# EAGLE library part EE02_02 (library EE)
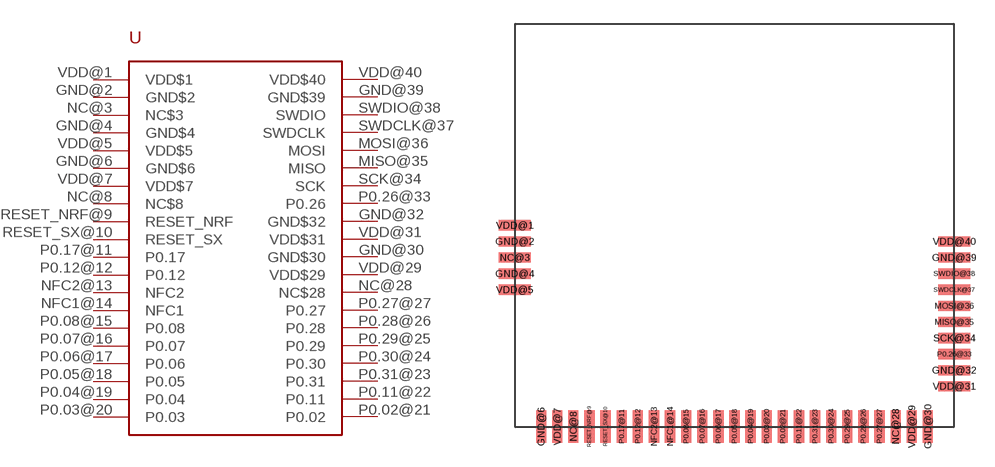
[diagram p4: symbol with the pads of EE02_02; footprint EE02_02]

Designator prefix -

## EE02_02  [EE02_02]
GND@2  GND$2
GND@4  GND$4
GND@6  GND$6
GND@30  GND$30
GND@32  GND$32
GND@39  GND$39
MISO@35  MISO
MOSI@36  MOSI
NC@3  NC$3
NC@8  NC$8
NC@28  NC$28
NFC1@14  NFC1
NFC2@13  NFC2
P0.02@21  P0.02
P0.03@20  P0.03
P0.04@19  P0.04
P0.05@18  P0.05
P0.06@17  P0.06
P0.07@16  P0.07
P0.08@15  P0.08
P0.11@22  P0.11
P0.12@12  P0.12
P0.17@11  P0.17
P0.26@33  P0.26
P0.27@27  P0.27
P0.28@26  P0.28
P0.29@25  P0.29
P0.30@24  P0.30
P0.31@23  P0.31
RESET_NRF@9  RESET_NRF
RESET_SX@10  RESET_SX
SCK@34  SCK
SWDCLK@37  SWDCLK
SWDIO@38  SWDIO
VDD@1  VDD$1
VDD@5  VDD$5
VDD@7  VDD$7
VDD@29  VDD$29
VDD@31  VDD$31
VDD@40  VDD$40

## Footprint EE02_02 (pad centres in mm)
smd 2 x 0.635: GND@2 -1.635,11.5; GND@4 -1.635,9.5; GND@32 25.635,3.5; GND@39 25.635,10.5; MISO@35 25.635,6.5; MOSI@36 25.635,7.5; NC@3 -1.635,10.5; P0.26@33 25.635,4.5; SCK@34 25.635,5.5; SWDCLK@37 25.635,8.5; SWDIO@38 25.635,9.5; VDD@1 -1.635,12.5; VDD@5 -1.635,8.5; VDD@31 25.635,2.5; VDD@40 25.635,11.5
smd 0.635 x 2: GND@6 0,0; GND@30 24,0; NC@8 2,0; NC@28 22,0; NFC1@14 8,0; NFC2@13 7,0; P0.02@21 15,0; P0.03@20 14,0; P0.04@19 13,0; P0.05@18 12,0; P0.06@17 11,0; P0.07@16 10,0; P0.08@15 9,0; P0.11@22 16,0; P0.12@12 6,0; P0.17@11 5,0; P0.27@27 21,0; P0.28@26 20,0; P0.29@25 19,0; P0.30@24 18,0; P0.31@23 17,0; RESET_NRF@9 3,0; RESET_SX@10 4,0; VDD@7 1,0; VDD@29 23,0